# EAGLE library part IT500 (library fastrax)
Fastrax IT500 GPS Receiver
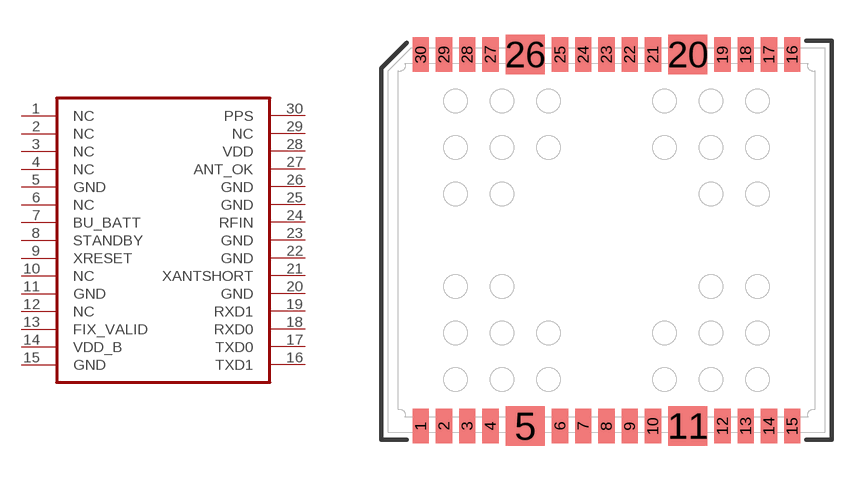
[diagram p0: symbol with the pads of IT500; footprint IT500]

Designator prefix U

## IT500  [IT500]
1  NC  nc
2  NC  nc
3  NC  nc
4  NC  nc
5  GND  pwr
6  NC  nc
7  BU_BATT  pwr
8  STANDBY  in
9  XRESET  in
10  NC  nc
11  GND  pwr
12  NC  nc
13  FIX_VALID  out
14  VDD_B  pwr
15  GND  pwr
16  TXD1  out
17  TXD0  out
18  RXD0  in
19  RXD1  in
20  GND  pwr
21  XANTSHORT  out
22  GND  pwr
23  GND  pwr
24  RFIN
25  GND  pwr
26  GND  pwr
27  ANT_OK  out
28  VDD  pwr
29  NC  nc
30  PPS  out

## Footprint IT500 (pad centres in mm)
Fastrax IT500 GPS Receiver
smd 0.7 x 1.5: 1 -8,-8; 2 -7,-8; 3 -6,-8; 4 -5,-8; 6 -2,-8; 7 -1,-8; 8 0,-8; 9 1,-8; 10 2,-8; 12 5,-8; 13 6,-8; 14 7,-8; 15 8,-8; 16 8,8; 17 7,8; 18 6,8; 19 5,8; 21 2,8; 22 1,8; 23 0,8; 24 -1,8; 25 -2,8; 27 -5,8; 28 -6,8; 29 -7,8; 30 -8,8
smd 1.7 x 1.7: 5 -3.5,-8; 11 3.5,-8; 20 3.5,8; 26 -3.5,8